# Altium schematic symbol library My.SchLib: 32 symbols
Pins are listed as number, name and electrical type; pins without a type are passive.

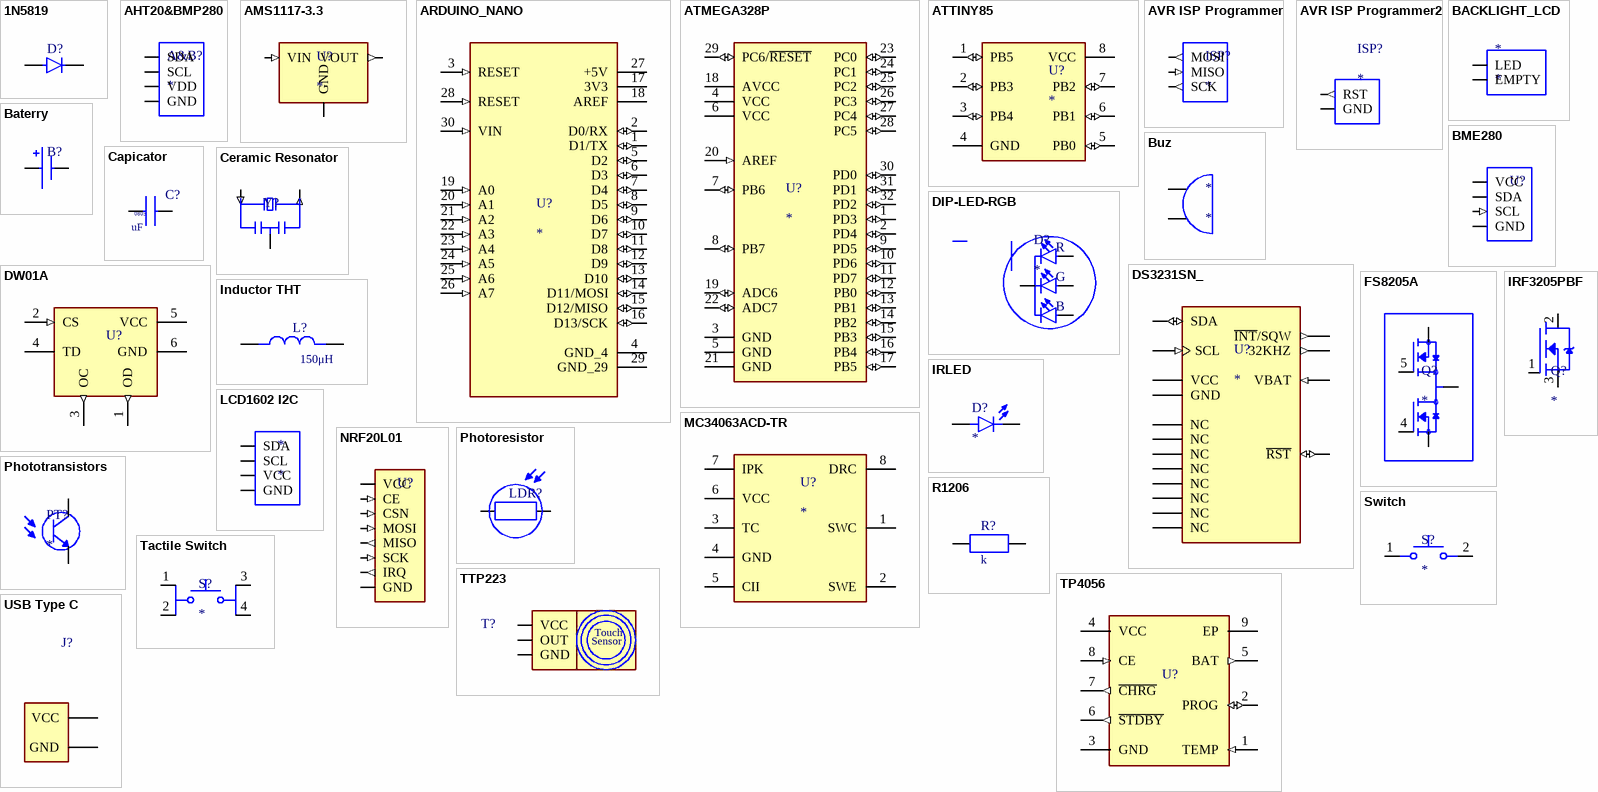
[diagram p0: symbols 1N5819 to USB Type C]

## 1N5819
designator D?  (value not drawn)
1A, 40V, Planar Schottky; MF: Taiwan Semiconductor; MP: 1N5819; SnapEDA_Link: https://www.snapeda.com/parts/1N5819/taiwan/view-part/?ref=snap; Package: DO-41-2 Taiwan Semiconductor; Value: *; Check_prices: https://www.snapeda.com/parts/1N5819/taiwan/view-part/?ref=eda
footprint DIOD 1N5819
pins: 1, 2

## AHT20&BMP280
designator A&B?
High Precision Digital Temperature And Humidity Atmospheric Pressure Sensor; MF: Estardyn; MP: AHT20+BMP280; SnapEDA_Link: https://www.snapeda.com/parts/AHT20+BMP280/Estardyn/view-part/?ref=snap; Package: None; Value: *; Check_prices: https://www.snapeda.com/parts/AHT20+BMP280/Estardyn/view-part/?ref=eda
footprint AHT20+BMP280
pins: GND (io), SCL (io), SDA (io), VDD (io)

## AMS1117-3.3
designator U?
Linear Voltage Regulator IC Positive Fixed 1 Output 1A SOT-223-3L; MF: UMW; MP: AMS1117-3.3; SnapEDA_Link: https://www.snapeda.com/parts/AMS1117-3.3/UMW/view-part/?ref=snap; Package: SOT-223-3L UMW; Value: *; Check_prices: https://www.snapeda.com/parts/AMS1117-3.3/UMW/view-part/?ref=eda
footprint AMS1117_SOT229
pins: 1 GND (power), 2 VOUT (out), 3 VIN (in)

## ARDUINO_NANO
designator U?
ATmega328 Arduino Nano; SnapEDA_Link: https://www.snapeda.com/parts/Arduino%20Nano/Arduino/view-part/?ref=snap; Package: Non-Standard Arduino; Value: *; MF: Arduino; MP: Arduino Nano; Check_prices: https://www.snapeda.com/parts/Arduino%20Nano/Arduino/view-part/?ref=eda
footprint ARDUINO_NANO
pins: 1 D1/TX (io), 2 D0/RX (io), 3 RESET (in), 4 GND_4 (power), 5 D2 (io), 6 D3 (io), 7 D4 (io), 8 D5 (io), 9 D6 (io), 10 D7 (io), 11 D8 (io), 12 D9 (io), 13 D10 (io), 14 D11/MOSI (io), 15 D12/MISO (io), 16 D13/SCK (io), 17 3V3 (power), 18 AREF (power), 19 A0 (in), 20 A1 (in), 21 A2 (in), 22 A3 (in), 23 A4 (in), 24 A5 (in), 25 A6 (in), 26 A7 (in), 27 +5V (power), 28 RESET (in), 29 GND_29 (power), 30 VIN (in)

## ATMEGA328P
designator U?
AVR AVRÂ® ATmega Microcontroller IC 8-Bit 20MHz 32KB (16K x 16) FLASH 32-TQFP (7x7); MF: Microchip Technology / Atmel; MP: ATMEGA328P-AN; SnapEDA_Link: https://www.snapeda.com/parts/ATMEGA328P-AN/Microchip/view-part/?ref=snap; Package: TQFP-32 Microchip Technology / Atmel; Value: *; Check_prices: https://www.snapeda.com/parts/ATMEGA328P-AN/Microchip/view-part/?ref=eda
footprint Atmega328
pins: 1 PD3 (io), 2 PD4 (io), 3 GND (power), 4 VCC (power), 5 GND (power), 6 VCC (power), 7 PB6 (io), 8 PB7 (io), 9 PD5 (io), 10 PD6 (io), 11 PD7 (io), 12 PB0 (io), 13 PB1 (io), 14 PB2 (io), 15 PB3 (io), 16 PB4 (io), 17 PB5 (io), 18 AVCC (power), 19 ADC6 (io), 20 AREF (in), 21 GND (power), 22 ADC7 (io), 23 PC0 (io), 24 PC1 (io), 25 PC2 (io), 26 PC3 (io), 27 PC4 (io), 28 PC5 (io), 29 PC6/~{RESET} (io), 30 PD0 (io), 31 PD1 (io), 32 PD2 (io)

## ATTINY85
designator U?
AVR AVRÂ® ATtiny, Functional Safety (FuSa) Microcontroller IC 8-Bit 20MHz 8KB (4K x 16) FLASH 8-SOIC; MF: Microchip Technology; MP: ATTINY85-20SF; SnapEDA_Link: https://www.snapeda.com/parts/ATTINY85-20SF/Microchip/view-part/?ref=snap; Package: SOIC-8 Atmel; Value: *; Check_prices: https://www.snapeda.com/parts/ATTINY85-20SF/Microchip/view-part/?ref=eda
footprint attiny soic8
pins: 1 PB5 (io), 2 PB3 (io), 3 PB4 (io), 4 GND, 5 PB0 (io), 6 PB1 (io), 7 PB2 (io), 8 VCC (power)

## AVR ISP Programmer
designator ISP?
footprint PLS-3 (Штыри однорядные 1x4 конт. шаг 2.54 мм, вертик. на плату)
footprint PLS-3 - ANGULAR (Штыри однорядные 1x4 конт. шаг 2.54 мм, вертик. на плату)
pins: 1 MOSI (out), 2 MISO (in), 3 SCK (out)

## AVR ISP Programmer2
designator ISP?
footprint PLS-2 (Штыри однорядные 1x2 конт. шаг 2.54 мм, вертик. на плату)
footprint PLS-2 - angular (Штыри однорядные 1x2 конт. шаг 2.54 мм, вертик. на плату)
pins: 1 RST (out), 2 GND (power)

## BACKLIGHT_LCD
designator *
footprint PLS-2 (Штыри однорядные 1x2 конт. шаг 2.54 мм, вертик. на плату)
pins: 1 LED, 2 EMPTY

## Baterry
designator B?
footprint 18650 PLS 2
footprint 3V Batery
footprint CR123A
pins: 1 (power), 2 (power)

## BME280
designator U?  (value not drawn)
footprint BME280
pins: 1 VCC (power), 2 GND (power), 3 SCL (in), 4 SDA (io)

## Buz
designator *
pins: 8, 9

## Capicator
designator C?  value uF  Size: 0805  (hidden comment: *)
Types: Tantalum; Polarity: +
footprint SMD6032 Capicator
footprint CAPICATOR Radial 6.3mm
footprint R1206
footprint 0603
footprint 0805
footprint Capicator 293D size A
pins: 1, 2

## Ceramic Resonator
designator Y?  (value not drawn)
16 MHz Ceramic Resonator Built in Capacitor 15 pF Â±0.3% -20Â°C ~ 80Â°C Surface Mount; MF: Murata; MP: CSTCE16M0V53-R0-; SnapEDA_Link: https://www.snapeda.com/parts/CSTCE16M0V53-R0-/Murata/view-part/?ref=snap; Package: None; Value: *; Check_prices: https://www.snapeda.com/parts/CSTCE16M0V53-R0-/Murata/view-part/?ref=eda
footprint Ceramic Resonator
pins: 1 IN (in), 2 GND (power), 3 OUT (out)

## DIP-LED-RGB
designator D?
DIP-LED-RGB catode; MP: WP7113ID; MF: Kingbright; Price: None; Package: Radial Kingbright; Check_prices: https://www.snapeda.com/parts/WP7113ID/Kingbright/view-part/?ref=eda; Purchase-URL: https://pricing.snapeda.com/search/part/WP7113ID/?ref=eda; Availability: In Stock; Value: *; SnapEDA_Link: https://www.snapeda.com/parts/WP7113ID/Kingbright/view-part/?ref=snap
footprint RGB LED DIP
pins: 1 R, 2 GND, 3 G, 4 B

## DS3231SN_
designator U?
Real Time Clock (RTC) IC Clock/Calendar - IÂ²C, 2-Wire Serial 16-SOIC (0.295, 7.50mm Width); MF: Maxim Integrated; MP: DS3231SN#; Purchase-URL: https://pricing.snapeda.com/search/part/DS3231SN#/?ref=eda; Package: SOIC-16 Maxim; Value: *; SnapEDA_Link: https://www.snapeda.com/parts/DS3231SN%23/Maxim+Integrated/view-part/?ref=snap; Check_prices: https://www.snapeda.com/parts/DS3231SN%23/Maxim+Integrated/view-part/?ref=eda; Price: None; Availability: In Stock
footprint SOIC_DS3231SN
pins: 1 32KHZ (out), 2 VCC (power), 3 ~{INT}/SQW (out), 4 ~{RST} (io), 5 NC, 6 NC, 7 NC, 8 NC, 9 NC, 10 NC, 11 NC, 12 NC, 13 GND (power), 14 VBAT (in), 15 SDA (io), 16 SCL (in)

## DW01A
designator U?  (value not drawn)
One Cell Lithium-ion/Polymer Battery Protection IC; MF: Fortune Semiconductor; MP: DW01A; SnapEDA_Link: https://www.snapeda.com/parts/DW01A/Fortune+Semiconductor/view-part/?ref=snap; Package: SOT-23-6 Fortune Semiconductor; Value: *; Check_prices: https://www.snapeda.com/parts/DW01A/Fortune+Semiconductor/view-part/?ref=eda
footprint DW01A
pins: 1 OD (out), 2 CS (in), 3 OC (out), 4 TD, 5 VCC (power), 6 GND (power)

## FS8205A
designator Q?
MF: Fortune Semiconductor; MP: FS8205A; SnapEDA_Link: https://www.snapeda.com/parts/FS8205A/Fortune+Semiconductor/view-part/?ref=snap; Package: Package; Value: *; Check_prices: https://www.snapeda.com/parts/FS8205A/Fortune+Semiconductor/view-part/?ref=eda
footprint FS8205A
pins: 1 D12, 2 S1, 3 S1, 4 G1, 5 G2, 6 S2, 7 S2, 8 D12

## Inductor THT
designator L?  value 150μH  (hidden comment: *)
Inductor THT axial; MF: TDK Electronics; MP: B78108S1102K000; SnapEDA_Link: https://www.snapeda.com/parts/B78108S1102K000/TDK/view-part/?ref=snap; Package: None; Check_prices: https://www.snapeda.com/parts/B78108S1102K000/TDK/view-part/?ref=eda
footprint INDUCTOR THT
pins: 1, 2

## IRF3205PBF
designator Q?
MOSFET, Power,N-Ch,VDSS 55V,RDS(ON) 8 Milliohms,ID 110A,TO-220AB,PD 200W,gFS 44S | Infineon IRF3205PBF; MF: Infineon Technologies; SnapEDA_Link: https://www.snapeda.com/parts/IRF3205PBF/Infineon/view-part/?ref=snap; Package: TO-220-3 Infineon; Value: *; MP: IRF3205PBF; Check_prices: https://www.snapeda.com/parts/IRF3205PBF/Infineon/view-part/?ref=eda
footprint MOSFET IRF3205PBF
pins: 1 G, 2 D, 3 S

## IRLED
designator D?
infrared LED 850nm; MP: WP7113ID; MF: Kingbright; Price: None; Package: Radial Kingbright; Check_prices: https://www.snapeda.com/parts/WP7113ID/Kingbright/view-part/?ref=eda; Purchase-URL: https://pricing.snapeda.com/search/part/WP7113ID/?ref=eda; Availability: In Stock; Value: *; SnapEDA_Link: https://www.snapeda.com/parts/WP7113ID/Kingbright/view-part/?ref=snap
footprint IRLED_DIP
footprint LED_DIP
pins: 1, 2

## LCD1602 I2C
designator *
footprint PLS-4 - duplicate (Штыри однорядные 1x4 конт. шаг 2.54 мм, вертик. на плату)
pins: 1 GND (io), 2 VCC (io), 3 SDA (io), 4 SCL (io)

## MC34063ACD-TR
designator U?
Buck, Boost Switching Regulator IC Positive or Negative Adjustable 1.25V 1 Output 1.5A (Switch) 8-SOIC (0.154, 3.90mm Width); MF: STMicroelectronics; MP: MC34063ACD-TR; SnapEDA_Link: https://www.snapeda.com/parts/MC34063ACD-TR/STMicroelectronics/view-part/?ref=snap; Package: None; Value: *; Check_prices: https://www.snapeda.com/parts/MC34063ACD-TR/STMicroelectronics/view-part/?ref=eda
footprint MC34063ACD-TR_SOIC8
pins: 1 SWC, 2 SWE, 3 TC, 4 GND, 5 CII, 6 VCC (power), 7 IPK, 8 DRC

## NRF20L01
designator U?  (value not drawn)
footprint NRF24L01
pins: 1 VCC (power), 2 GND (power), 3 CE (in), 4 CSN (in), 5 SCK (in), 6 MOSI (in), 7 MISO (out), 8 IRQ (out)

## Photoresistor
designator LDR?, comment photoresistor  (value not drawn)
Value: 10k; Parameter 2: *
footprint PLS-2 (Штыри однорядные 1x2 конт. шаг 2.54 мм, вертик. на плату)
pins: 1 0, 2 1

## Phototransistors
designator PT?
Phototransistors 850nm Top View Radial; MF: Vishay; MP: BPW85A; SnapEDA_Link: https://www.snapeda.com/parts/BPW85A/Vishay+Semiconductor+Opto+Division/view-part/?ref=snap; Package: Radial Vishay; Value: *; Check_prices: https://www.snapeda.com/parts/BPW85A/Vishay+Semiconductor+Opto+Division/view-part/?ref=eda
footprint Phototransistors DIP
pins: 1, 2

## R1206
designator R?, comment value k  (hidden comment: Resistor 1206)
Parameter 2: *; Parameter 1: *
footprint R1206
footprint 0603
footprint 0805
pins: 1 0, 2 1

## Switch
designator S?
MP: TL1105AF160Q; Value: *; Package: None; Price: None; Availability: Unavailable
footprint PLS-2 (2)
footprint Switch arduino
pins: 1, 2

## Tactile Switch
designator S?
MP: TL1105AF160Q; Value: *; Package: None; Price: None; Availability: Unavailable
footprint Tactile Switch
pins: 1, 2, 3, 4

## TP4056
designator U?  (value not drawn)
Complete single cell Li-Ion battery with a constant current / constant voltage linear charger; MF: NanJing Top Power ASIC Corp.; MP: TP4056; Check_prices: https://www.snapeda.com/parts/TP4056/NanJing+Top+Power+ASIC+Corp./view-part/?ref=eda; SnapEDA_Link: https://www.snapeda.com/parts/TP4056/NanJing+Top+Power+ASIC+Corp./view-part/?ref=snap; Price: None; Availability: Not in stock; Package: Package; Value: *
footprint TP4056
pins: 1 TEMP (in), 2 PROG (io), 3 GND (power), 4 VCC (power), 5 BAT (out), 6 ~{STDBY} (out), 7 ~{CHRG} (out), 8 CE (in), 9 EP

## TTP223
designator T?  (value not drawn)
footprint PLS-3 (Штыри однорядные 1x4 конт. шаг 2.54 мм, вертик. на плату)
pins: 1 VCC (io), 2 OUT (io), 3 GND (io)
text: Touch; Sensor

## USB Type C
designator J?  (value not drawn)
USB Type C, Power Only, Top mount, Center Height 1.68mm, Single Row, Surface Mount; MF: Amphenol; MP: GSB1C411101DSHR; SnapEDA_Link: https://www.snapeda.com/parts/GSB1C411101DSHR/Amphenol/view-part/?ref=snap; Package: None; Value: *; Check_prices: https://www.snapeda.com/parts/GSB1C411101DSHR/Amphenol/view-part/?ref=eda
footprint USB-TYPE-C
footprint 18650 PLS 2
pins: 1 VCC (power), 2 GND (power)